# Altium schematic symbol library EReference-Schematic.SchLib: 84 symbols (part 1 of 3)
Pins are listed as number, name and electrical type; pins without a type are passive.

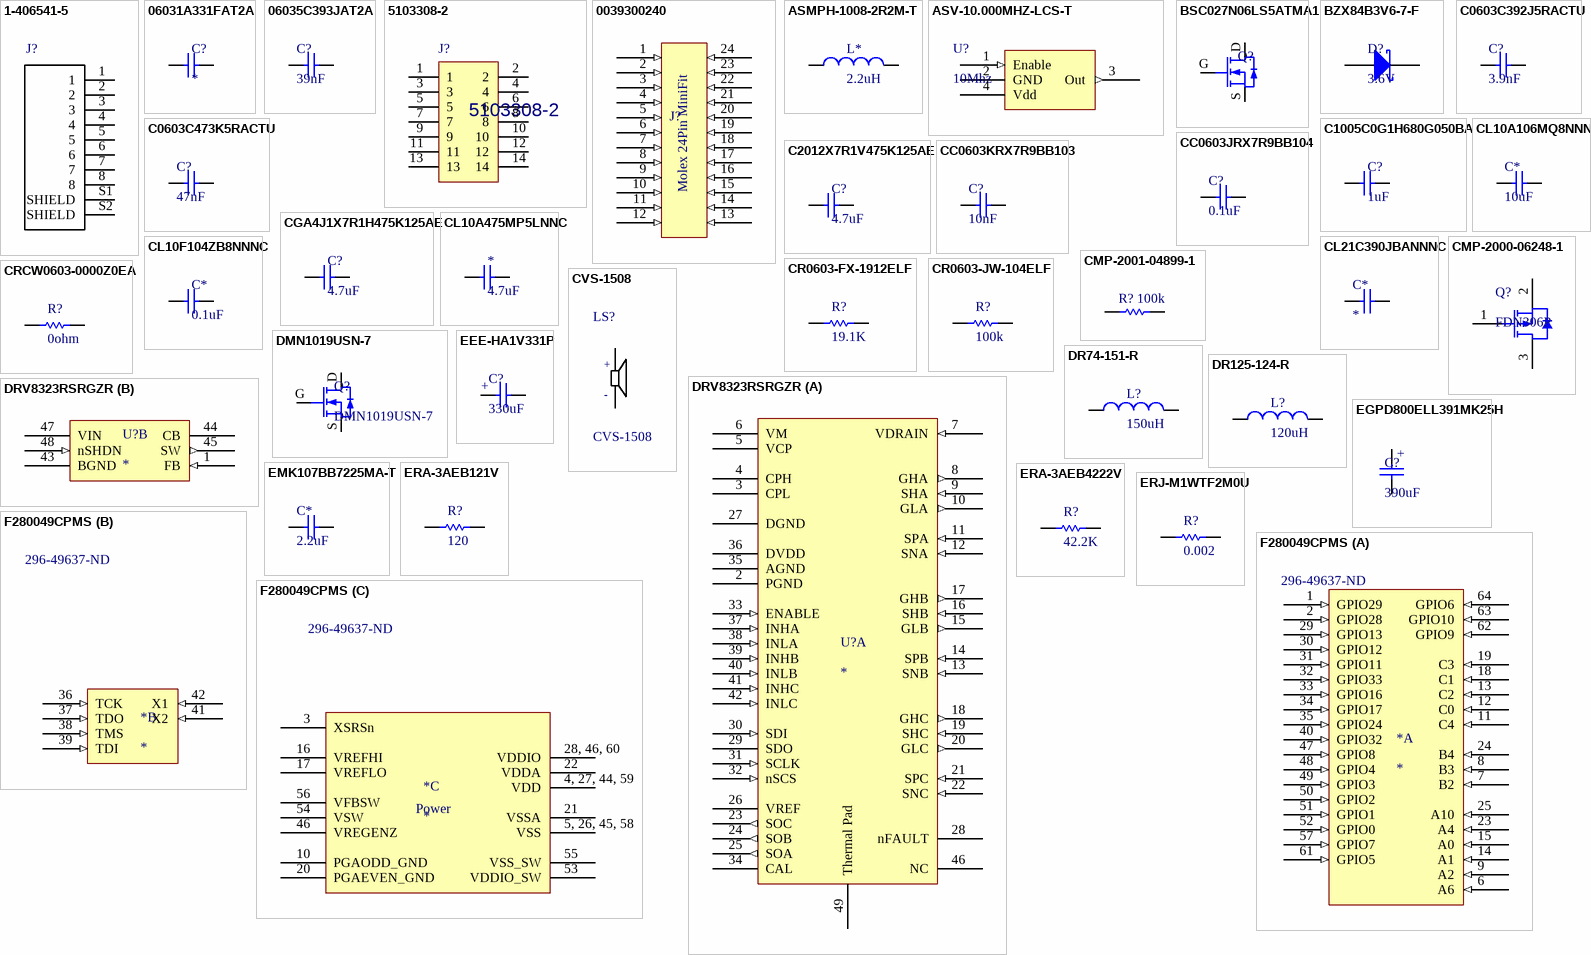
[diagram p0: symbols 1-406541-5 to F280049CPMS]

## 1-406541-5
designator J?  (value not drawn)
Conn RJ-45 F 8 POS 2.04mm Solder RA Thru-Hole 8 Terminal 1 Port Tray Cat 5; MF: TE Connectivity; TE_purchase_URL: https://www.te.com/usa-en/product-1-406541-5.html?te_bu=Cor&te_type=disp&te_campaign=seda_glo_cor-seda-global-disp-prtnr-fy19-seda-model-bom-cta_sma-317_1&elqCampaignId=32493; MP: 1-406541-5; Availability: Unavailable; Package: None; SnapEDA_Link: https://www.snapeda.com/parts/1-406541-5/TE%20Connectivity%20AMP%20Connectors/view-part/?ref=snap; Price: None; Value: *
footprint TE_1-406541-5_1-406541-5(Primary)
pins: 1, 2, 3, 4, 5, 6, 7, 8, S1 SHIELD, S2 SHIELD

## 06031A331FAT2A
designator C?
Multilayer Ceramic Capacitors MLCC - SMD/SMT 100volts 330pF 1% C0G; Manufacturer: Kyocera AVX; Manufacturer Part Number: 06031A331FAT2A; Voltage Rating: 100V; Supplier 1: Digi-Key; RoHS: Yes; Stock 1: 22973; Pricing 1: 1 = 0.52000, 10 = 0.35900, 100 = 0.21560, 500 = 0.16172, 1000 = 0.13656 (USD); Mount: Surface Mount; Case/Package: 0603; Case Code (Imperial): 0603; Case Code (Metric): 1608; Min Operating Temperature: -55°C; Max Operating Temperature: 125°C; Capacitance: 330pF; Tolerance: 1%; Dielectric: C0G; Voltage Rating (DC): 100V; Packaging: Tape and Reel; Package Quantity: 4000; Termination: SMD/SMT; Length: 1.6mm; Depth: 0.81mm; Width: 0.81mm; Thickness: 0.035inch; Radiation Hardening: No; ComponentLink1URL: http://datasheets.avx.com/C0GNP0-Dielectric.pdf; ComponentLink1Description: http://datasheets.avx.com/C0GNP0-Dielectric.pdf; ComponentLink2URL: http://www.avxcorp.com/docs/Catalogs/ccog.pdf; ComponentLink2Description: http://www.avxcorp.com/docs/Catalogs/ccog.pdf
footprint CAPC1608X05L (Chip Capacitor, 2-Leads, Body 1.60x0.80mm, IPC High Density)
pins: 1, 2

## 06035C393JAT2A
designator C?, comment 39nF
Ceramic Capacitor 0.039uf 50v, X7r, 5%, 0603, Full Reel; Manufacturer 1: Kyocera AVX; Manufacturer Part Number 1: 06035C393JAT2A; Dissipation Factor: 2.5%; Supplier 1: Digi-Key; Stock 1: 3075; Pricing 1: 1=0.37000, 10=0.25900, 100=0.15560, 500=0.11670, 1000=0.09854 (USD); RoHS: Yes; Mount: Surface Mount; Case/Package: 0603; Number of Pins: 2; Case Code (Imperial): 0603; Case Code (Metric): 1608; Min Operating Temperature: -55°C; Max Operating Temperature: 125°C; Capacitance: 39nF; Package Quantity: 4000; Voltage Rating: 50V; Voltage Rating (DC): 50V; Tolerance: 5%; Packaging: Tape and Reel; Dielectric: X7R; Termination: SMD/SMT; Length: 1.6mm; Width: 0.81mm; Thickness: 0.035inch; Depth: 0.81mm; Radiation Hardening: No; REACH SVHC: Unknown; ComponentLink1URL: https://datasheet.ciiva.com/208/cx7r-208430.pdf?src-supplier=Digi-Key; ComponentLink1Description: https://datasheet.ciiva.com/208/cx7r-208430.pdf?src-supplier=Digi-Key
footprint CAPC1608X05L (Chip Capacitor, 2-Leads, Body 1.60x0.80mm, IPC High Density)
pins: 1, 2

## 5103308-2
designator J?
Header; Pin; Vertical; Copper Alloy; Thermoplastic; 14; 0.100 x 0.100 in.; 1 A; MF: TE Connectivity; TE_purchase_URL: https://www.te.com/usa-en/product-5103308-2.html?te_bu=Cor&te_type=disp&te_campaign=seda_glo_cor-seda-global-disp-prtnr-fy19-seda-model-bom-cta_sma-317_1&elqCampaignId=32493; MP: 5103308-2; Availability: Unavailable; Package: None; SnapEDA_Link: https://www.snapeda.com/parts/5103308-2/TE%20Connectivity%20AMP%20Connectors/view-part/?ref=snap; Price: None; Value: *; ComponentLink1Description: Product Page; ComponentLink1URL: https://www.te.com/usa-en/product-5103308-2.html?te_bu=Dat&te_type=other&te_campaign=eda_usa_sg-snap-3d&elqCampaignId=20145#pdp-documents-tab
footprint TE_5103308-2
pins: 1, 2, 3, 4, 5, 6, 7, 8, 9, 10, 11, 12, 13, 14

## 0039300240
designator J?
Conn Power HDR 24 POS 4.2mm Solder RA Thru-Hole 24 Terminal 1 Port Mini-Fit Jr™ Bag; Manufacturer: Molex; Manufacturer Part Number: 0039300240; Number of Positions: 24; Connector Type: Male Pin; Number of Ports: 1; Row Spacing: 0.165inch; Supplier 1: Arrow; Stock 1: 0; Mount: Through Hole; Color: Natural; Contact Material: Brass; Contact Plating: Copper,Tin; Housing Material: Polyamide; Number of Terminals: 24; Min Operating Temperature: -40°C; Max Operating Temperature: 105°C; Packaging: Tray; Number of Rows: 2; Termination: Solder; Number of Contacts: 24; Orientation: Right Angle; Fastening Type: Ramp; Length: 51.6mm; Pitch: 4.2mm; Depth: 19.4mm; ComponentLink1URL: http://www.molex.com/webdocs/datasheets/pdf/en-us/0039300240_PCB_HEADERS.pdf; ComponentLink1Description: http://www.molex.com/webdocs/datasheets/pdf/en-us/0039300240_PCB_HEADERS.pdf; ComponentLink2URL: https://www.molex.com/pdm_docs/pk/PK-5569-002.pdf; ComponentLink2Description: https://www.molex.com/pdm_docs/pk/PK-5569-002.pdf
footprint Molex MINI-FIT 24 - 0039300240 (Mini fit family 24 pin connector right angle from Molex)
pins: 1 (in), 2 (in), 3 (in), 4 (in), 5 (in), 6 (in), 7 (in), 8 (in), 9 (in), 10 (in), 11 (in), 12 (in), 13 (in), 14 (in), 15 (in), 16 (in), 17 (in), 18 (in), 19 (in), 20 (in), 21 (in), 22 (in), 23 (in), 24 (in)
text: Molex 24Pin MiniFit

## ASMPH-1008-2R2M-T
designator L*, comment 2.2uH
FIXED IND 2.2UH 1.3A 80 MOHM SMD; Manufacturer: Abracon; Manufacturer Part Number: ASMPH-1008-2R2M-T; Core Material: Ferrite; Self Resonant Frequency: 55MHz; Shielding: Shielded; Tolerance: 20%; Saturation Current: 850mA; DC Resistance (DCR): 80mR; Test Frequency: 1MHz; Supplier 1: Digi-Key; Stock 1: 8992; Pricing 1: 1=0.39, 10=0.345, 100=0.2372, 500=0.20268, 1000=0.15525 (USD); Mount: Surface Mount; Case/Package: 1008; Case Code (Metric): 2520; Case Code (Imperial): 1008; Min Operating Temperature: -40°C; Max Operating Temperature: 85°C; Packaging: Tape and Reel; Package Quantity: 3000; Current Rating: 1.3A; Inductance: 2.2uh; Max DC Current: 850mA; Termination: SMD/SMT; Length: 0.098inch; Height: 0.9mm; Width: 2mm; Height - Seated (Max): 0.039inch; ComponentLink1URL: http://www.abracon.com/Magnetics/power/ASMPH-1008.pdf; ComponentLink1Description: http://www.abracon.com/Magnetics/power/ASMPH-1008.pdf
simulation model Model Name (Model Description)
signal-integrity model Model Name (Model Description)
footprint INDC2521X10L (Chip Inductor, 2-Leads, Body 2.50x2.10mm, IPC High Density)
pins: 1, 2

## ASV-10.000MHZ-LCS-T
designator U?, comment 10Mhz
OSC XO 10.0000MHZ LVCMOS TTL SMD; Manufacturer: Abracon; Manufacturer Part Number: ASV-10.000MHZ-LCS-T; Supplier 1: Digi-Key; Stock 1: 4213; Pricing 1: 1 = 1.12000, 10 = 0.98700, 50 = 0.92240, 100 = 0.81510, 500 = 0.77220 (USD); ComponentLink1Description: DataSheet; ComponentLink1URL: https://abracon.com/Oscillators/ASV.pdf; ComponentLink2Description: Digikey Page; ComponentLink2URL: https://www.digikey.ca/product-detail/en/abracon-llc/ASV-10.000MHZ-LCS-T/535-13490-1-ND/5980162
footprint ASV-10.000MHZ-LCS-T (Recomended Footprint for ASV-10.000MHZ-LCS-T Crystal)
pins: 1 Enable (in), 2 GND (power), 3 Out (out), 4 Vdd (power)

## BSC027N06LS5ATMA1
designator Q?
MOSFET N-CH 60V 100A 8TDSON; Manufacturer 1: Infineon; Manufacturer Part Number 1: BSC027N06LS5ATMA1; Supplier 1: Digi-Key; Stock 1: 3937; Pricing 1: 1=2.07000, 10=1.85900, 100=1.49430, 500=1.22768, 1000=1.01722 (USD); RoHS: No; ComponentLink1URL: https://www.infineon.com/dgdl/Infineon-BSC027N06LS5-DS-v02_00-EN.pdf?fileId=5546d46258fc0bc101596e1c881234d6&src-supplier=Digi-Key; ComponentLink1Description: https://www.infineon.com/dgdl/Infineon-BSC027N06LS5-DS-v02_00-EN.pdf?fileId=5546d46258fc0bc101596e1c881234d6&src-supplier=Digi-Key
footprint PG-TDSON-8-7
pins: D, G, S

## BZX84B3V6-7-F
designator D?, comment 3.6V
DIODE ZENER 3.6V 300MW SOT23; Manufacturer 1: Diodes; Manufacturer Part Number 1: BZX84B3V6-7-F; Max Power Dissipation: 350mW; Tolerance: 2%; Impedance: 90R; Test Current: 5mA; Max Reverse Leakage Current: 5uA; Element Configuration: Single; ESD Protection: No; Supplier 1: Digi-Key; Stock 1: 8752; Pricing 1: 1=0.19000, 10=0.16900, 100=0.09210, 500=0.05668, 1000=0.03864 (USD); RoHS: Yes; Mount: Surface Mount; Case/Package: SOT-23; Number of Pins: 3; Contact Plating: Tin,Matte; Min Operating Temperature: -65°C; Max Operating Temperature: 150°C; Packaging: Tape and Reel; Zener Voltage: 3.6V; Power Rating: 350mW; Length: 3mm; Height: 1.1mm; Width: 1.4mm; REACH SVHC: No SVHC; Lead Free: Lead Free; ComponentLink1URL: https://datasheet.ciiva.com/30478/0900766b81268ba3-30478625.pdf?src-supplier=RSComponents; ComponentLink1Description: https://datasheet.ciiva.com/30478/0900766b81268ba3-30478625.pdf?src-supplier=RSComponents
footprint SOT90P240X110-3N (SOT23, 3-Leads, Body 2.90x2.40mm, Pitch 0.90mm, IPC Medium Density)
pins: 1 A, 3 K

## C0603C392J5RACTU
designator C?, comment 3.9nF
Multilayer Ceramic Capacitors MLCC - SMD/SMT 50volts 3900pF X7R 5%; Manufacturer 1: KEMET; Manufacturer Part Number 1: C0603C392J5RACTU; Voltage Rating (DC): 50V; Dissipation Factor: 2.5%; Supplier 1: Digi-Key; Stock 1: 9639; Pricing 1: 1=0.40000, 10=0.28100, 100=0.16840, 500=0.12628, 1000=0.10663 (USD); RoHS: Yes; Mount: Surface Mount; Case/Package: 0603; Dielectric Material: Ceramic; Case Code (Metric): 1608; Case Code (Imperial): 0603; Min Operating Temperature: -55°C; Max Operating Temperature: 125°C; Capacitance: 3.9nF; Tolerance: 5%; Packaging: Tape and Reel; Dielectric: X7R; Voltage Rating: 50V; Package Quantity: 1; Termination: SMD/SMT; Length: 1.6mm; Height: 0.8mm; Depth: 0.8mm; Width: 0.031inch; Thickness: 0.034inch; Lead Pitch: 0.7mm; REACH SVHC: No SVHC; ComponentLink1URL: http://components.arrow.com/part/dataview/2089105S5980753N7429?src-supplier=Arrow; ComponentLink1Description: http://components.arrow.com/part/dataview/2089105S5980753N7429?src-supplier=Arrow; ComponentLink2URL: http://www.mouser.com/ds/2/212/KEM_C1002_X7R_SMD-1102033.pdf?src-supplier=Mouser; ComponentLink2Description: http://www.mouser.com/ds/2/212/KEM_C1002_X7R_SMD-1102033.pdf?src-supplier=Mouser; ComponentLink3URL: https://search.kemet.com/component-edge/download/datasheet/C0603C392J5RACTU.pdf?src-supplier=Digi-Key; ComponentLink3Description: https://search.kemet.com/component-edge/download/datasheet/C0603C392J5RACTU.pdf?src-supplier=Digi-Key; ComponentLink4URL: https://api.kemet.com/component-edge/download/datasheet/C0603C392J5RACTU.pdf?src-supplier=Digi-Key; ComponentLink4Description: https://api.kemet.com/component-edge/download/datasheet/C0603C392J5RACTU.pdf?src-supplier=Digi-Key
footprint CAPC1608X05L (Chip Capacitor, 2-Leads, Body 1.60x0.80mm, IPC High Density)
pins: 1, 2

## C0603C473K5RACTU
designator C?, comment 47nF
Multilayer Ceramic Capacitor, C Series, 0.047 - F, - 10%, X7R, 50 V, 0603 [1608 Metric] ;RoHS Compliant: Yes; Manufacturer 1: KEMET; Manufacturer Part Number 1: C0603C473K5RACTU; Voltage Rating: 50V; Dissipation Factor: 2.5%; Supplier 1: Digi-Key; Stock 1: 340857; Pricing 1: 1=0.12000, 10=0.08800, 100=0.04130, 500=0.02896, 1000=0.02397 (USD); RoHS: Yes; Mount: Surface Mount,PCB; Case/Package: 0603; Number of Pins: 2; Case Code (Metric): 1608; Case Code (Imperial): 0603; Dielectric Material: Ceramic; Min Operating Temperature: -55°C; Max Operating Temperature: 125°C; Packaging: Tape and Reel; Tolerance: 10%; Package Quantity: 1; Capacitance: 47nF; Voltage Rating (DC): 50V; Dielectric: X7R; Termination: SMD/SMT; Voltage: 50V; Length: 1.6mm; Height: 0.8mm; Width: 0.8mm; Thickness: 0.034inch; Lead Pitch: 0.7mm; Depth: 0.8mm; Radiation Hardening: No; REACH SVHC: No SVHC; ComponentLink1URL: https://datasheet.ciiva.com/6074/1776093-6074329.pdf?src-supplier=Farnell; ComponentLink1Description: https://datasheet.ciiva.com/6074/1776093-6074329.pdf?src-supplier=Farnell; ComponentLink2URL: https://datasheet.ciiva.com/28682/1851736-28682298.pdf?src-supplier=Element14; ComponentLink2Description: https://datasheet.ciiva.com/28682/1851736-28682298.pdf?src-supplier=Element14; ComponentLink3URL: https://datasheet.ciiva.com/7823/1776093-7823803.pdf?src-supplier=Element14; ComponentLink3Description: https://datasheet.ciiva.com/7823/1776093-7823803.pdf?src-supplier=Element14; ComponentLink4URL: https://datasheet.ciiva.com/18193/getdatasheetpartid-94279-18193115.pdf?src-supplier=Verical; ComponentLink4Description: https://datasheet.ciiva.com/18193/getdatasheetpartid-94279-18193115.pdf?src-supplier=Verical; ComponentLink5URL: https://datasheet.ciiva.com/7823/1776093-7823804.pdf?src-supplier=Element14; ComponentLink5Description: https://datasheet.ciiva.com/7823/1776093-7823804.pdf?src-supplier=Element14
footprint CAPC1608X05L (Chip Capacitor, 2-Leads, Body 1.60x0.80mm, IPC High Density)
pins: 1, 2

## C1005C0G1H680G050BA
designator C?, comment 1uF
CAP CER 68PF 50V C0G 0402; Manufacturer: TDK; Manufacturer Part Number: C1005C0G1H680G050BA; Dielectric Material: Ceramic; Tolerance: 2%; Supplier 1: Digi-Key; Stock 1: 86; Pricing 1: 1=0.52, 10=0.359, 100=0.2156, 500=0.16172, 1000=0.13656, 2500=0.12938, 5000=0.12219 (USD); Mount: Surface Mount; Case/Package: 0402; Weight: 2.3E-05oz; Case Code (Imperial): 0402; Case Code (Metric): 1005; Min Operating Temperature: -55°C; Max Operating Temperature: 125°C; Capacitance: 68pF; Packaging: Tape and Reel; Package Quantity: 1; Voltage Rating: 50V; Voltage Rating (DC): 50V; Dielectric: C0G; Termination: SMD/SMT; Length: 1mm; Height: 0.5mm; Width: 0.5mm; Thickness: 0.022inch; Depth: 0.5mm; Lead Free: Lead Free; ComponentLink1URL: http://www.mouser.com/ds/2/400/lcc_commercial_general_en-837201.pdf; ComponentLink1Description: http://www.mouser.com/ds/2/400/lcc_commercial_general_en-837201.pdf; ComponentLink2URL: https://product.tdk.com/info/en/documents/chara_sheet/C1005C0G1H680G050BA.pdf; ComponentLink2Description: https://product.tdk.com/info/en/documents/chara_sheet/C1005C0G1H680G050BA.pdf
footprint CAPC1608X05L (Chip Capacitor, 2-Leads, Body 1.60x0.80mm, IPC High Density)
simulation model Model Name (Model Description)
signal-integrity model Model Name (Model Description)
pins: 1, 2

## C2012X7R1V475K125AE
designator C?, comment 4.7uF
CAP CER 4.7UF 35V X7R 0805; Manufacturer 1: TDK; Manufacturer Part Number 1: C2012X7R1V475K125AE; Tolerance: 10%; Supplier 1: Digi-Key; Stock 1: 34290; Pricing 1: 1=0.67000, 10=0.47200, 100=0.31050, 500=0.23000, 1000=0.19550 (USD); RoHS: Yes; Mount: Surface Mount; Case/Package: 0805; Weight: 0.000194oz; Case Code (Metric): 2012; Case Code (Imperial): 0805; Min Operating Temperature: -55°C; Max Operating Temperature: 125°C; Capacitance: 4.7uF; Packaging: Tape and Reel; Voltage Rating: 35V; Dielectric: X7R; Termination: SMD/SMT; Voltage Rating (DC): 35V; Package Quantity: 2000; Features: Soft Termination; Length: 0.079inch; Height: 1.25mm; Width: 1.2mm; Thickness: 0.059inch; Lead Free: Lead Free; ComponentLink1URL: http://www.mouser.com/ds/2/400/tdk_mlcc_commercial_general_en-542463.pdf?src-supplier=Mouser; ComponentLink1Description: http://www.mouser.com/ds/2/400/tdk_mlcc_commercial_general_en-542463.pdf?src-supplier=Mouser; ComponentLink2URL: https://product.tdk.com/info/en/catalog/datasheets/mlcc_commercial_soft_en.pdf?src-supplier=Digi-Key; ComponentLink2Description: https://product.tdk.com/info/en/catalog/datasheets/mlcc_commercial_soft_en.pdf?src-supplier=Digi-Key; ComponentLink3URL: https://product.tdk.com/info/en/catalog/spec/mlccspec_commercial_soft_en.pdf?src-supplier=Digi-Key; ComponentLink3Description: https://product.tdk.com/info/en/catalog/spec/mlccspec_commercial_soft_en.pdf?src-supplier=Digi-Key
footprint CAPC2113X15N (Chip Capacitor, 2-Leads, Body 2.13x1.27mm, IPC Medium Density)
pins: 1, 2

## CC0603JRX7R9BB104
designator C?, comment 0.1uF
Cap Ceramic 0.1uF 50V X7R 5% SMD 0603 125C Paper T/R; Manufacturer: Yageo; Manufacturer Part Number: CC0603JRX7R9BB104; Capacitance: 100nF; Supplier 1: Digi-Key; Stock 1: 40000; Pricing 1: 1=0.17, 10=0.12, 100=0.0562, 500=0.03942, 1000=0.03263 (USD); Mount: Surface Mount; Case/Package: 0603; Number of Pins: 2; Weight: 7.1E-05oz; Case Code (Imperial): 0603; Case Code (Metric): 1608; Min Operating Temperature: -55°C; Max Operating Temperature: 125°C; Tolerance: 5%; Dielectric: X7R; Voltage Rating: 50V; Packaging: Tape and Reel; Voltage Rating (DC): 50V; Termination: SMD/SMT; Composition: Ceramic; Length: 1.6mm; Height: 0.8mm; Width: 0.031inch; Thickness: 0.035inch; Depth: 0.8mm; Radiation Hardening: No; Lead Free: Lead Free; Halogen Free: Halogen Free; ComponentLink1URL: http://www.yageo.com/documents/recent/UPY-GPHC_X7R_6.3V-to-50V_8.pdf; ComponentLink1Description: http://www.yageo.com/documents/recent/UPY-GPHC_X7R_6.3V-to-50V_8.pdf
footprint CAPC1608X05L (Chip Capacitor, 2-Leads, Body 1.60x0.80mm, IPC High Density)
simulation model Model Name (Model Description)
signal-integrity model Model Name (Model Description)
pins: 1, 2

## CC0603KRX7R9BB103
designator C?, comment 10nF
Cap Ceramic 0.01uF 50V X7R 10% SMD 0603 125C Automotive T/R; Manufacturer 1: Yageo; Manufacturer Part Number 1: CC0603KRX7R9BB103; Insulation Resistance: 100GR; Supplier 1: Digi-Key; Stock 1: 7582220; Pricing 1: 1=0.10000, 10=0.03800, 100=0.01710, 500=0.01224, 1000=0.00962 (USD); RoHS: Yes; Mount: Surface Mount; Case/Package: 0603; Number of Pins: 2; Material: Ceramic; Case Code (Metric): 1608; Case Code (Imperial): 0603; Min Operating Temperature: -55°C; Max Operating Temperature: 125°C; Tolerance: 10%; Capacitance: 10nF; Dielectric: X7R; Voltage: 50V; Packaging: Tape and Reel; Voltage Rating: 50V; Voltage Rating (DC): 50V; Package Quantity: 1; Termination: SMD/SMT; Composition: Ceramic; Length: 1.6mm; Height: 0.8mm; Width: 0.031inch; Thickness: 0.035inch; Depth: 0.8mm; Radiation Hardening: No; REACH SVHC: No SVHC; Lead Free: Lead Free; Halogen Free: Halogen Free; ComponentLink1URL: https://datasheet.ciiva.com/11788/0900766b8079c870-11788374.pdf?src-supplier=RSComponents; ComponentLink1Description: https://datasheet.ciiva.com/11788/0900766b8079c870-11788374.pdf?src-supplier=RSComponents; ComponentLink2URL: https://datasheet.ciiva.com/26862/getdatasheetpartid-403582-26862846.pdf?src-supplier=Verical; ComponentLink2Description: https://datasheet.ciiva.com/26862/getdatasheetpartid-403582-26862846.pdf?src-supplier=Verical; ComponentLink3URL: https://datasheet.ciiva.com/8033/1734573-8033861.pdf?src-supplier=Element14; ComponentLink3Description: https://datasheet.ciiva.com/8033/1734573-8033861.pdf?src-supplier=Element14; ComponentLink4URL: https://datasheet.ciiva.com/176/mlccorderingcode-176550.pdf?src-supplier=Digi-Key; ComponentLink4Description: https://datasheet.ciiva.com/176/mlccorderingcode-176550.pdf?src-supplier=Digi-Key; ComponentLink5URL: https://datasheet.ciiva.com/176/mlccorderingcode-176551.pdf?src-supplier=Digi-Key; ComponentLink5Description: https://datasheet.ciiva.com/176/mlccorderingcode-176551.pdf?src-supplier=Digi-Key; ComponentLink6URL: https://datasheet.ciiva.com/13389/upy-gphc-x7r-6-3v-to-50v-8-13389991.pdf?src-supplier=Mouser; ComponentLink6Description: https://datasheet.ciiva.com/13389/upy-gphc-x7r-6-3v-to-50v-8-13389991.pdf?src-supplier=Mouser; ComponentLink7URL: https://datasheet.ciiva.com/176/mlccorderingcode-176552.pdf?src-supplier=Digi-Key; ComponentLink7Description: https://datasheet.ciiva.com/176/mlccorderingcode-176552.pdf?src-supplier=Digi-Key; ComponentLink8URL: https://datasheet.ciiva.com/8033/1734573-8033816.pdf?src-supplier=Element14; ComponentLink8Description: https://datasheet.ciiva.com/8033/1734573-8033816.pdf?src-supplier=Element14; ComponentLink9URL: https://datasheet.ciiva.com/8033/70765-8033817.pdf?src-supplier=Element14; ComponentLink9Description: https://datasheet.ciiva.com/8033/70765-8033817.pdf?src-supplier=Element14; ComponentLink10URL: https://datasheet.ciiva.com/16625/upy-gphc-x7r-6-3v-to-50v-8-16625529.pdf?src-supplier=Avnet+Europe; ComponentLink10Description: https://datasheet.ciiva.com/16625/upy-gphc-x7r-6-3v-to-50v-8-16625529.pdf?src-supplier=Avnet+Europe; ComponentLink11URL: https://datasheet.ciiva.com/28450/1489800-28450619.pdf?src-supplier=Element14; ComponentLink11Description: https://datasheet.ciiva.com/28450/1489800-28450619.pdf?src-supplier=Element14
footprint CAPC1608X05L (Chip Capacitor, 2-Leads, Body 1.60x0.80mm, IPC High Density)
pins: 1, 2

## CGA4J1X7R1H475K125AE
designator C?, comment 4.7uF
X7R 50V 4.7uF 0805; Manufacturer 1: TDK; Manufacturer Part Number 1: CGA4J1X7R1H475K125AE; Supplier 1: Arrow; Stock 1: 2000; Pricing 1: 1=0.21820 (USD); RoHS: No
footprint CAPC2113X15N (Chip Capacitor, 2-Leads, Body 2.13x1.27mm, IPC Medium Density)
pins: 1, 2

## CL10A106MQ8NNNC
designator C*, comment 10uF
Cap Ceramic 10uF 6.3V X5R 20% SMD 0603 85C Paper T/R; Manufacturer: Samsung; Manufacturer Part Number: CL10A106MQ8NNNC; Supplier 1: Digi-Key; Stock 1: 40000; Pricing 1: 1=0.15, 10=0.11, 100=0.0515, 500=0.03614, 1000=0.02992 (USD); Mount: Surface Mount; Case/Package: 0603; Case Code (Metric): 1608; Case Code (Imperial): 0603; Contact Plating: Tin; Min Operating Temperature: -55°C; Max Operating Temperature: 85°C; Capacitance: 10uF; Tolerance: 20%; Dielectric: X5R; Package Quantity: 1; Packaging: Tape and Reel; Voltage Rating: 6.3V; Voltage: 6.3V; Length: 1.6mm; Height: 0.8mm; Width: 0.031inch; Thickness: 0.035inch; Depth: 0.8mm; Radiation Hardening: No; ComponentLink1URL: http://www.samsungsem.com/kr/support/library/product-catalog/mlcc.jsp; ComponentLink1Description: http://www.samsungsem.com/kr/support/library/product-catalog/mlcc.jsp; ComponentLink2URL: https://www.verical.com/server-webapp/html/getDatasheet?partID=357557; ComponentLink2Description: https://www.verical.com/server-webapp/html/getDatasheet?partID=357557; ComponentLink3URL: http://www1.futureelectronics.com/doc/SAMSUNG%20PASSIVE/CL05B104KQ5NNNC.pdf; ComponentLink3Description: http://www1.futureelectronics.com/doc/SAMSUNG%20PASSIVE/CL05B104KQ5NNNC.pdf
footprint CAPC1608X05L (Chip Capacitor, 2-Leads, Body 1.60x0.80mm, IPC High Density)
simulation model Model Name (Model Description)
signal-integrity model Model Name (Model Description)
pins: 1, 2

## CL10A475MP5LNNC
designator *, comment 4.7uF
Cap Ceramic 4.7uF 10V X5R 20% SMD 0603 85C Cardboard T/R; Manufacturer: Samsung; Manufacturer Part Number: CL10A475MP5LNNC; Supplier 1: Digi-Key; Stock 1: 40000; Pricing 1: 1=0.16, 10=0.117, 100=0.055, 500=0.03854, 1000=0.03191 (USD); Mount: Surface Mount; Case/Package: 0603; Case Code (Metric): 1608; Case Code (Imperial): 0603; Contact Plating: Tin; Min Operating Temperature: -55°C; Max Operating Temperature: 85°C; Packaging: Tape and Reel; Capacitance: 4.7uF; Voltage Rating: 10V; Tolerance: 20%; Termination: Wraparound; Dielectric: X5R; Length: 0.063inch; Width: 0.031inch; Thickness: 0.022inch
simulation model Model Name (Model Description)
signal-integrity model Model Name (Model Description)
footprint CAPC1608X05L (Chip Capacitor, 2-Leads, Body 1.60x0.80mm, IPC High Density)
pins: 1, 2

## CL10F104ZB8NNNC
designator C*, comment 0.1uF
Cap Ceramic 0.1uF 50V Y5V -20% to 80% SMD 0603 85C T/R; Manufacturer: Samsung; Manufacturer Part Number: CL10F104ZB8NNNC; Capacitance: 100nF; Supplier 1: Digi-Key; Stock 1: 40000; Pricing 1: 1=0.1, 10=0.038, 100=0.0169, 500=0.01208, 1000=0.00949 (USD); Mount: Surface Mount; Case/Package: 0603; Case Code (Metric): 1608; Case Code (Imperial): 0603; Material: Ceramic; Contact Plating: Tin; Min Operating Temperature: -30°C; Max Operating Temperature: 85°C; Tolerance: 80%; Packaging: Tape and Reel; Dielectric: Y5V; Voltage Rating: 50V; Package Quantity: 1; Voltage: 50V; Length: 1.6mm; Height: 0.8mm; Depth: 0.8mm; Width: 0.031inch; Thickness: 0.035inch; Radiation Hardening: No; ComponentLink1URL: http://www1.futureelectronics.com/doc/SAMSUNG/CL10F104ZB8NNNC.pdf; ComponentLink1Description: http://www1.futureelectronics.com/doc/SAMSUNG/CL10F104ZB8NNNC.pdf; ComponentLink2URL: https://www.verical.com/server-webapp/html/getDatasheet?partID=355329; ComponentLink2Description: https://www.verical.com/server-webapp/html/getDatasheet?partID=355329; ComponentLink3URL: https://www.distrelec.biz/Web/Downloads/_e/ng/MLCC_CatalogDownload2013_ENG.pdf?mime=application%2Fpdf; ComponentLink3Description: https://www.distrelec.biz/Web/Downloads/_e/ng/MLCC_CatalogDownload2013_ENG.pdf?mime=application%2Fpdf; ComponentLink4URL: https://produktinfo.conrad.com/datenblaetter/450000-474999/456692-da-01-en-VS_KONDENSATOR_0603.pdf; ComponentLink4Description: https://produktinfo.conrad.com/datenblaetter/450000-474999/456692-da-01-en-VS_KONDENSATOR_0603.pdf
footprint CAPC1608X05L (Chip Capacitor, 2-Leads, Body 1.60x0.80mm, IPC High Density)
simulation model Model Name (Model Description)
signal-integrity model Model Name (Model Description)
pins: 1, 2

## CL21C390JBANNNC
designator C*
Cap Ceramic 39pF 50V C0G 5% SMD 0805 125C T/R; Manufacturer 1: Samsung; Manufacturer Part Number 1: CL21C390JBANNNC; Temperature Coefficient: 300ppm/°C; Supplier 1: Digi-Key; Stock 1: 146725; Pricing 1: 1=0.10000, 10=0.05700, 100=0.02530, 500=0.01810, 1000=0.01422 (USD); RoHS: Yes; Mount: Surface Mount; Case/Package: 0805; Case Code (Metric): 2012; Case Code (Imperial): 0805; Material: Ceramic; Min Operating Temperature: -55°C; Max Operating Temperature: 125°C; Capacitance: 39pF; Tolerance: 5%; Dielectric: C0G; Package Quantity: 1; Packaging: Tape and Reel; Voltage Rating: 50V; Voltage: 50V; Length: 2mm; Height: 0.65mm; Depth: 1.25mm; Width: 0.049inch; Thickness: 0.03inch; Radiation Hardening: No; ComponentLink1URL: https://datasheet.ciiva.com/15195/getdatasheetpartid-480498-15195959.pdf?src-supplier=Verical; ComponentLink1Description: https://datasheet.ciiva.com/15195/getdatasheetpartid-480498-15195959.pdf?src-supplier=Verical; ComponentLink2URL: https://datasheet.ciiva.com/29199/454441-da-01-en-vs-kondensator-0805-29199687.pdf?src-supplier=Conrad; ComponentLink2Description: https://datasheet.ciiva.com/29199/454441-da-01-en-vs-kondensator-0805-29199687.pdf?src-supplier=Conrad; ComponentLink3URL: https://datasheet.ciiva.com/16428/cl05b104kq5nnnc-16428906.pdf?src-supplier=Future+Electronics; ComponentLink3Description: https://datasheet.ciiva.com/16428/cl05b104kq5nnnc-16428906.pdf?src-supplier=Future+Electronics
footprint CAPC2113X15N (Chip Capacitor, 2-Leads, Body 2.13x1.27mm, IPC Medium Density)
pins: 1, 2

## CMP-2000-06248-1
designator Q?, comment FDN306P
P-Channel Specified Power Trench (R) MOSFET, 1.8 V, -55 to 150 degC, 3-Pin SOT, RoHS, Tape and Reel; Manufacturer: Fairchild Semiconductor; Channel Mode: Enhancement; Channel Type: P; Transistor Material: Si; Package Version: Rev. 3, 05/2015; Minimum Gate Threshold Voltage: 0.4V; Maximum Gate Source Voltage: ±8V; Maximum Power Dissipation: 0.5W; Typical Turn-Off Delay Time: 38ns; Maximum Drain Source Voltage: 12V; Maximum Continuous Drain Current: 2.6A; Maximum Drain Source Resistance: 0.04Ω; Number of Elements per Chip: 1; Typical Turn-On Delay Time: 11ns; Typical Gate Charge @ Vgs: 12nC@4.5V; Transistor Configuration: Single; Typical Input Capacitance @ Vds: 1138pF@6V; Mounting Type: SurfaceMount; Mounting Technology: SurfaceMount; Category: PowerMOSFET; Datasheet URL: https://www.fairchildsemi.com/datasheets/FD/FDN306P.pdf; Length: 2.92mm; Package Reference: SSOT3L; Width: 1.4mm; Package Type: SOT-23; Maximum Operating Temperature: +150°C; Minimum Operating Temperature: -55°C; Manufacturer URL: https://www.fairchildsemi.com/; Package URL: https://www.fairchildsemi.com/package-drawings/MA/MA03B.pdf; Pin Count: 3; Height: 0.94mm; Dimensions: 2.92x1.4x0.94mm; Package Description: 3-Pin Small Outline Transistor, Body 2.92 x 1.4 mm, Pitch 0.95 mm; Datasheet Version: Rev. D, 12/2001
footprint FAIR-SSOT3L-3_V (SOT23, 3-Leads, Body 2.92x1.4mm, Pitch 0.95mm)
pins: 1 GATE, 2 SOURCE, 3 DRAIN

## CMP-2001-04899-1
designator R? 100k, comment CRCW0805100KFKEA  (value not drawn)
100k resistor 1% 0805; Manufacturer: Vishay Dale; Part Number: CRCW0805100KFKEA
footprint RESC2013X50X30LL20T20 (Chip Resistor, 2-Leads, Body 2.00x1.25mm, IPC High Density)
pins: 1, 2
1 alternate drawing of the same symbol

## CR0603-FX-1912ELF
designator R?, comment 19.1K
RES SMD 19.1K OHM 1% 1/10W 0603; Manufacturer 1: Bourns; Manufacturer Part Number 1: CR0603-FX-1912ELF; Resistance: 19.1kR; Power Rating: 100mW; Voltage Rating: 50V; Temperature Coefficient: 100ppm/°C; Supplier 1: Digi-Key; Stock 1: 78916; Pricing 1: 1=0.10000, 10=0.02000, 100=0.00820, 1000=0.00367, 2500=0.00319 (USD); RoHS: Yes; Mount: Surface Mount; Case/Package: 0603; Case Code (Metric): 1608; Case Code (Imperial): 0603; Contact Plating: Tin; Min Operating Temperature: -55°C; Max Operating Temperature: 155°C; Package Quantity: 5000; Packaging: Tape and Reel; Tolerance: 1%; Composition: Thick Film; Number of Terminations: 2; Termination: SMD/SMT; Military Standard: Not; Max Power Dissipation: 100mW; Features: Moisture Resistant; Length: 1.6mm; Height: 0.022inch; Width: 0.031inch; Depth: 0.8mm; Thickness: 457um; Radiation Hardening: No; ComponentLink1URL: https://datasheet.ciiva.com/5549/chpreztr-5549702.pdf?src-supplier=Mouser; ComponentLink1Description: https://datasheet.ciiva.com/5549/chpreztr-5549702.pdf?src-supplier=Mouser; ComponentLink2URL: https://datasheet.ciiva.com/9121/chpreztr-9121960.pdf?src-supplier=Avnet; ComponentLink2Description: https://datasheet.ciiva.com/9121/chpreztr-9121960.pdf?src-supplier=Avnet
footprint CAPC1608X05L (Chip Capacitor, 2-Leads, Body 1.60x0.80mm, IPC High Density)
pins: 1, 2

## CR0603-JW-104ELF
designator R?, comment 100k
BOURNS - CR0603-JW-104ELF - RES, 100K, 5%, 0.1W, 0603, THICK FILM; Resistance: 100kR; Power Rating: 100mW; Voltage Rating: 50V; Temperature Coefficient: 200ppm/°C; Supplier 1: Digi-Key; Manufacturer 1: Bourns; Manufacturer Part Number 1: CR0603-JW-104ELF; Stock 1: 49390; Pricing 1: 1=0.10000, 10=0.01500, 25=0.01080, 50=0.00840, 100=0.00610, 250=0.00468, 500=0.00374, 1000=0.00275 (USD); RoHS: Yes; Mount: Surface Mount; Case/Package: 0603; Number of Pins: 2; Case Code (Imperial): 0603; Case Code (Metric): 1608; Contact Plating: Tin; Min Operating Temperature: -55°C; Max Operating Temperature: 155°C; Packaging: Tape and Reel; Tolerance: 5%; Package Quantity: 5000; Composition: Thick Film; Termination: SMD/SMT; Working Voltage: 50V; Military Standard: Not; Voltage Rating (DC): 50V; Length: 1.6mm; Height: 0.45mm; Width: 0.8mm; Depth: 0.8mm; Thickness: 457um; Radiation Hardening: No; REACH SVHC: No SVHC; ComponentLink1URL: https://datasheet.ciiva.com/22713/691949-22713239.pdf?src-supplier=Element14; ComponentLink1Description: https://datasheet.ciiva.com/22713/691949-22713239.pdf?src-supplier=Element14; ComponentLink2URL: https://datasheet.ciiva.com/23776/1902866-23776391.pdf?src-supplier=Newark; ComponentLink2Description: https://datasheet.ciiva.com/23776/1902866-23776391.pdf?src-supplier=Newark; ComponentLink3URL: https://datasheet.ciiva.com/16766/70154685-16766760.pdf?src-supplier=Allied+Electronics; ComponentLink3Description: https://datasheet.ciiva.com/16766/70154685-16766760.pdf?src-supplier=Allied+Electronics; ComponentLink4URL: https://datasheet.ciiva.com/9120/chpreztr-9120764.pdf?src-supplier=Avnet; ComponentLink4Description: https://datasheet.ciiva.com/9120/chpreztr-9120764.pdf?src-supplier=Avnet; ComponentLink5URL: https://datasheet.ciiva.com/46383/1791942-46383790.pdf?src-supplier=Element14; ComponentLink5Description: https://datasheet.ciiva.com/46383/1791942-46383790.pdf?src-supplier=Element14; ComponentLink6URL: https://datasheet.ciiva.com/30229/159chpreztr-30229129.pdf?src-supplier=Onlinecomponents.com; ComponentLink6Description: https://datasheet.ciiva.com/30229/159chpreztr-30229129.pdf?src-supplier=Onlinecomponents.com; ComponentLink7URL: https://datasheet.ciiva.com/16935/chpreztr-16935963.pdf?src-supplier=Avnet+Europe; ComponentLink7Description: https://datasheet.ciiva.com/16935/chpreztr-16935963.pdf?src-supplier=Avnet+Europe; ComponentLink8URL: https://datasheet.ciiva.com/5543/chpreztr-5543676.pdf?src-supplier=Mouser; ComponentLink8Description: https://datasheet.ciiva.com/5543/chpreztr-5543676.pdf?src-supplier=Mouser; ComponentLink9URL: https://datasheet.ciiva.com/48692/001055501-da-01-en-smd-wid-cr0603-jw-104elf-100k-ohm-1-10w-48692133.pdf?src-supplier=Conrad; ComponentLink9Description: https://datasheet.ciiva.com/48692/001055501-da-01-en-smd-wid-cr0603-jw-104elf-100k-ohm-1-10w-48692133.pdf?src-supplier=Conrad
footprint CAPC1608X05L (Chip Capacitor, 2-Leads, Body 1.60x0.80mm, IPC High Density)
pins: 1, 2

## CRCW0603-0000Z0EA
designator R?, comment 0ohm
Resistor SMD 0 Ohm 0603 PU=5000 ST, CRCW06030000Z0EA, Vishay; Manufacturer Part Number 1: CRCW0603-0000Z0EA; Resistance: 0mR; Power Rating: 100mW; Voltage Rating (DC): 75V; Tolerance: 5%; Temperature Coefficient: 100ppm/°C; Current Rating: 2A; Supplier 1: Digi-Key; Manufacturer 1: Vishay; Stock 1: 1308706; Pricing 1: 1=0.100000, 10=0.034000, 25=0.024400, 50=0.018600, 100=0.013800, 250=0.010480, 500=0.008400, 1000=0.006180 (USD); RoHS: Yes; Mount: Surface Mount; Case/Package: 0603; Weight: 7.1E-05oz; Case Code (Metric): 1608; Case Code (Imperial): 0603; Contact Plating: Tin,Lead; Min Operating Temperature: -55°C; Max Operating Temperature: 155°C; Packaging: Tape and Reel; Composition: Thick Film; Voltage Rating: 75V; Package Quantity: 1; Military Standard: Not; Number of Terminations: 2; Max Power Dissipation: 100mW; Termination: SMD/SMT; Features: Automotive AEC-Q200; Working Voltage: 75V; Length: 1.55mm; Height: 0.02inch; Width: 0.033inch; Depth: 0.85mm; Radiation Hardening: No; REACH SVHC: Unknown; Lead Free: Lead Free; ComponentLink1URL: https://datasheet.ciiva.com/2461/dcrcwe3-2461968.pdf?src-supplier=Digi-Key; ComponentLink1Description: https://datasheet.ciiva.com/2461/dcrcwe3-2461968.pdf?src-supplier=Digi-Key; ComponentLink2URL: https://datasheet.ciiva.com/2461/dcrcwe3-2461969.pdf?src-supplier=Digi-Key; ComponentLink2Description: https://datasheet.ciiva.com/2461/dcrcwe3-2461969.pdf?src-supplier=Digi-Key; ComponentLink3URL: https://datasheet.ciiva.com/2461/dcrcwe3-2461970.pdf?src-supplier=Digi-Key; ComponentLink3Description: https://datasheet.ciiva.com/2461/dcrcwe3-2461970.pdf?src-supplier=Digi-Key; ComponentLink4URL: https://datasheet.ciiva.com/8340/dcrcwe3-8340197.pdf?src-supplier=Avnet; ComponentLink4Description: https://datasheet.ciiva.com/8340/dcrcwe3-8340197.pdf?src-supplier=Avnet; ComponentLink5URL: https://datasheet.ciiva.com/16941/dcrcw-16941302.pdf?src-supplier=Avnet+Europe; ComponentLink5Description: https://datasheet.ciiva.com/16941/dcrcw-16941302.pdf?src-supplier=Avnet+Europe; ComponentLink6URL: https://datasheet.ciiva.com/16199/dcrcwe3-16199063.pdf?src-supplier=Future+Electronics; ComponentLink6Description: https://datasheet.ciiva.com/16199/dcrcwe3-16199063.pdf?src-supplier=Future+Electronics; ComponentLink7URL: https://datasheet.ciiva.com/16725/70201119-16725175.pdf?src-supplier=Allied+Electronics; ComponentLink7Description: https://datasheet.ciiva.com/16725/70201119-16725175.pdf?src-supplier=Allied+Electronics; ComponentLink8URL: https://datasheet.ciiva.com/26316/fld-crcw-e3-data-en-26316615.pdf?src-supplier=Distrelec; ComponentLink8Description: https://datasheet.ciiva.com/26316/fld-crcw-e3-data-en-26316615.pdf?src-supplier=Distrelec; ComponentLink9URL: https://datasheet.ciiva.com/5544/dcrcwe3-109170-5544344.pdf?src-supplier=Mouser; ComponentLink9Description: https://datasheet.ciiva.com/5544/dcrcwe3-109170-5544344.pdf?src-supplier=Mouser; ComponentLink10URL: https://datasheet.ciiva.com/7841/1720486-7841816.pdf?src-supplier=Element14; ComponentLink10Description: https://datasheet.ciiva.com/7841/1720486-7841816.pdf?src-supplier=Element14; ComponentLink11URL: https://datasheet.ciiva.com/7841/1720486-7841817.pdf?src-supplier=Element14; ComponentLink11Description: https://datasheet.ciiva.com/7841/1720486-7841817.pdf?src-supplier=Element14; ComponentLink12URL: https://datasheet.ciiva.com/7841/125364-7841818.pdf?src-supplier=Element14; ComponentLink12Description: https://datasheet.ciiva.com/7841/125364-7841818.pdf?src-supplier=Element14; ComponentLink13URL: https://datasheet.ciiva.com/16721/70201119-16721450.pdf?src-supplier=Allied+Electronics; ComponentLink13Description: https://datasheet.ciiva.com/16721/70201119-16721450.pdf?src-supplier=Allied+Electronics; Supplier Part Number 1: 541-0.0GCT-ND
footprint RESC1609X55X30LL10T20 (Chip Resistor, 2-Leads, Body 1.60x0.85mm, IPC High Density)
pins: 1, 2 "R? 0ohm"

## CVS-1508
designator LS?
Value: *
footprint SPKR_CVS-1508_CVS-1508(Primary)
pins: M, P
text: +; -

## DMN1019USN-7
designator Q?
MOSFET N-CH 12V 9.3A SC59; Manufacturer 1: Diodes; Capacitance: 2.426E-09F; Rds On Max: 10mR; Input Capacitance: 2.426nF; Max Power Dissipation: 680mW; Element Configuration: Single; Number of Channels: 1; Drain to Source Resistance: 41mR; Gate to Source Voltage (Vgs): 4.5V; Fall Time: 16.8ns; Rise Time: 57.6ns; Turn-Off Delay Time: 22.2ns; Turn-On Delay Time: 7.6ns; Supplier 1: Digi-Key; Manufacturer Part Number 1: DMN1019USN-7; Stock 1: 30621; Pricing 1: 1=0.44000, 10=0.35400, 100=0.24130, 500=0.18096, 1000=0.13572 (USD); RoHS: Yes; Mount: Surface Mount; Case/Package: TO-236-3; Weight: 0.000282oz; Min Operating Temperature: -55°C; Max Operating Temperature: 150°C; Packaging: Tape and Reel; Drain to Source Voltage (Vdss): 12V; Continuous Drain Current (ID): 9.3A; Drain to Source Breakdown Voltage: 12V; Package Quantity: 3000; Lead Free: Lead Free; ComponentLink1URL: http://www.mouser.com/ds/2/115/DMN1019USN-336718.pdf?src-supplier=Mouser; ComponentLink1Description: http://www.mouser.com/ds/2/115/DMN1019USN-336718.pdf?src-supplier=Mouser; ComponentLink2URL: https://www.diodes.com/assets/Datasheets/DMN1019USN.pdf?src-supplier=Digi-Key; ComponentLink2Description: https://www.diodes.com/assets/Datasheets/DMN1019USN.pdf?src-supplier=Digi-Key
footprint SOT95P285X140-3N (SOT23, 3-Leads, Body 3.00x2.85mm, Pitch 0.95mm, IPC Medium Density)
pins: D, G, S

## DR74-151-R
designator L?, comment 150uH
Inductor Power Shielded Wirewound 150uH 20% 100KHz Ferrite 690mA 591mOhm DCR T/R; Manufacturer 1: Eaton Cooper; Manufacturer Part Number 1: DR74-151-R; Max DC Current: 810mA; DC Resistance (DCR): 591mR; Supplier 1: Digi-Key; Stock 1: 2349; Pricing 1: 1=1.91000, 10=1.76600, 100=1.23650, 500=1.00096 (USD); RoHS: Yes; Mount: Surface Mount; Case/Package: Nonstandard; Number of Pins: 2; Weight: 0.048oz; Core Material: Ferrite; Min Operating Temperature: -40°C; Max Operating Temperature: 125°C; Tolerance: 20%; Inductance: 150uH; Package Quantity: 1100; Current Rating: 690mA; Saturation Current: 810mA; Shielding: Shielded; Packaging: Tape and Reel; Inductance Tolerance: 20%; Composition: Wirewound; Test Frequency: 100kHz; Termination: SMD/SMT; DC Current: 690mA; Military Standard: Not; RMS Current (Irms): 690mA; Self Resonant Frequency: 100kHz; Series Resistance: 591mR; Length: 7.6mm; Height: 4.35mm; Width: 0.299inch; Height - Seated (Max): 0.171inch; Depth: 7.6mm; Radiation Hardening: No; REACH SVHC: No SVHC; ComponentLink1URL: https://datasheet.ciiva.com/14667/0900766b8116a153-14667792.pdf?src-supplier=RSComponents; ComponentLink1Description: https://datasheet.ciiva.com/14667/0900766b8116a153-14667792.pdf?src-supplier=RSComponents; ComponentLink2URL: https://datasheet.ciiva.com/14123/dr-series-eng-tds-14123485.pdf?src-supplier=Distrelec; ComponentLink2Description: https://datasheet.ciiva.com/14123/dr-series-eng-tds-14123485.pdf?src-supplier=Distrelec; ComponentLink3URL: https://datasheet.ciiva.com/13168/bus-elx-ds-4315-dr-series-13168062.pdf?src-supplier=Mouser; ComponentLink3Description: https://datasheet.ciiva.com/13168/bus-elx-ds-4315-dr-series-13168062.pdf?src-supplier=Mouser; ComponentLink4URL: https://datasheet.ciiva.com/5708/87246-5708511.pdf?src-supplier=Farnell; ComponentLink4Description: https://datasheet.ciiva.com/5708/87246-5708511.pdf?src-supplier=Farnell; ComponentLink5URL: https://datasheet.ciiva.com/26821/getdatasheetpartid-169860-26821367.pdf?src-supplier=Verical; ComponentLink5Description: https://datasheet.ciiva.com/26821/getdatasheetpartid-169860-26821367.pdf?src-supplier=Verical; ComponentLink6URL: https://datasheet.ciiva.com/8005/87246-8005224.pdf?src-supplier=Element14; ComponentLink6Description: https://datasheet.ciiva.com/8005/87246-8005224.pdf?src-supplier=Element14; ComponentLink7URL: https://datasheet.ciiva.com/30174/43bus-elx-ds-4315-dr-ser-30174266.pdf?src-supplier=Onlinecomponents.com; ComponentLink7Description: https://datasheet.ciiva.com/30174/43bus-elx-ds-4315-dr-ser-30174266.pdf?src-supplier=Onlinecomponents.com; ComponentLink8URL: https://datasheet.ciiva.com/16350/bus-elx-ds-4315-dr-series-16350588.pdf?src-supplier=Future+Electronics; ComponentLink8Description: https://datasheet.ciiva.com/16350/bus-elx-ds-4315-dr-series-16350588.pdf?src-supplier=Future+Electronics
footprint INDP7676X44N (Precision Wire Wound Inductor, 2-Leads, Body 7.60x7.60mm, IPC Medium Density)
pins: 1, 2

## DR125-124-R
designator L?, comment 120uH
Fixed Inductors 120 000uH 0.069A 150ohms; Manufacturer 1: Eaton Bussmann; Manufacturer Part Number 1: DR125-124-R; Core Material: Ferrite; Tolerance: 20%; Shielding: Shielded; Saturation Current: 58A; Current Rating: 60mA; Inductance: 120mH; DC Resistance (DCR): 150R; Test Frequency: 100kHz; Current: 60A; Max DC Current: 69mA; Supplier 1: Digi-Key; Stock 1: 1520; Pricing 1: 1=1.95000, 10=1.80100, 100=1.26060 (USD); RoHS: Yes; Mount: Surface Mount; Case/Package: 120; Number of Pins: 2; Weight: 0.016oz; Min Operating Temperature: -40°C; Max Operating Temperature: 125°C; Packaging: Tape and Reel; Package Quantity: 600; Termination: SMD/SMT; DC Current: 60mA; Military Standard: Not; Length: 12.5mm; Height: 6mm; Width: 0.492inch; Depth: 12.5mm; Lead Free: Lead Free; ComponentLink1URL: https://datasheet.ciiva.com/16291/4a32919a-7470-4ae0-be45-b59e3a1351ef-16291744.pdf?src-supplier=Future+Electronics; ComponentLink1Description: https://datasheet.ciiva.com/16291/4a32919a-7470-4ae0-be45-b59e3a1351ef-16291744.pdf?src-supplier=Future+Electronics; ComponentLink2URL: https://datasheet.ciiva.com/4958/bus-elx-ds-4315-dr-series-4958109.pdf?src-supplier=Mouser; ComponentLink2Description: https://datasheet.ciiva.com/4958/bus-elx-ds-4315-dr-series-4958109.pdf?src-supplier=Mouser
footprint INDM125100X60N (Molded Inductor, 2-Leads, Body 12.50x10.00mm, IPC Medium Density)
pins: 1, 2

## DRV8323RSRGZR
designator U?
IC 3PHASE GATE DRIVER 48VQFN; Manufacturer: Texas Instruments; Manufacturer Part Number: DRV8323RSRGZR; Supplier 1: Digi-Key; Stock 1: 5951; Pricing 1: 1=4.44, 10=3.991, 100=3.2698, 500=2.78356, 1000=2.34758 (USD); Min Operating Temperature: -40°C; Max Operating Temperature: 125°C; Supplier 2: Digi-Key; Manufacturer 2: Texas Instruments; Manufacturer Part Number 2: DRV8323RSRGZR; Stock 2: 7391; Pricing 2: 1=4.44000, 10=3.99100, 100=3.26980, 500=2.78356, 1000=2.34758 (USD); RoHS: No; ComponentLink1URL: http://www.ti.com/lit/ds/symlink/drv8323r.pdf?src-supplier=Digi-Key; ComponentLink1Description: http://www.ti.com/lit/ds/symlink/drv8323r.pdf?src-supplier=Digi-Key
footprint QFN50P700X700X100_HS-49N (QFN, 48-Leads, Body 7.00x7.00mm, Pitch 0.50mm, Thermal Pad 5.15x5.15mm, IPC Medium Density)
part A pins: 2 PGND (power) "Device power ground. Connect to system ground.", 3 CPL (power) "Charge pump switching node. Connect a X5R or X7R, 47-nF, VM-rated ceramic capacitor between the CPH and CPL pins.", 4 CPH (power) "Charge pump switching node. Connect a X5R or X7R, 47-nF, VM-rated ceramic capacitor between the CPH and CPL pins.", 5 VCP (power) "Charge pump output. Connect a X5R or X7R, 1-µF, 16-V ceramic capacitor between the VCP and VM pins.", 6 VM (power) "Gate driver power supply input. Connect to the bridge power supply. Connect a X5R or X7R, 0.1-µF, VM-rated ceramic and  greater then or equal to 10-uF local capacitance between the VM and PGND pins.", 7 VDRAIN (in) "High-side MOSFET drain sense input. Connect to the common point of the MOSFET drains.", 8 GHA (out) "High-side gate driver output. Connect to the gate of the high-side power MOSFET", 9 SHA (in) "High-side source sense input. Connect to the high-side power MOSFET source.", 10 GLA (out) "Low-side gate driver output. Connect to the gate of the low-side power MOSFET.", 11 SPA (in) "Low-side source sense and shunt amplifier input. Connect to the low-side power MOSFET source and high-side of the  current shunt resistor.", 12 SNA (in) "Shunt amplifier input. Connect to the low-side of the current shunt resistor.", 13 SNB (in) "Shunt amplifier input. Connect to the low-side of the current shunt resistor.", 14 SPB (in) "Low-side source sense and shunt amplifier input. Connect to the low-side power MOSFET source and high-side of the  current shunt resistor.", 15 GLB (out) "Low-side gate driver output. Connect to the gate of the low-side power MOSFET.", 16 SHB (in) "High-side source sense input. Connect to the high-side power MOSFET source.", 17 GHB (out) "High-side gate driver output. Connect to the gate of the high-side power MOSFET", 18 GHC (out) "High-side gate driver output. Connect to the gate of the high-side power MOSFET", 19 SHC (in) "High-side source sense input. Connect to the high-side power MOSFET source.", 20 GLC (out) "Low-side gate driver output. Connect to the gate of the low-side power MOSFET.", 21 SPC (in) "Low-side source sense and shunt amplifier input. Connect to the low-side power MOSFET source and high-side of the  current shunt resistor.", 22 SNC (in) "Shunt amplifier input. Connect to the low-side of the current shunt resistor.", 23 SOC (out) "Shunt amplifier output.", 24 SOB (out) "Shunt amplifier output.", 25 SOA (out) "Shunt amplifier output.", 26 VREF (power) "Shunt amplifier power supply input and reference. Connect a X5R or X7R, 0.1-µF, 6.3-V ceramic capacitor between the  VREF and AGND pins.", 27 DGND (power) "Device ground. Connect to system ground.", 28 nFAULT (oc) "Fault indicator output. This pin is pulled logic low during a fault condition and requires an external pullup resistor", 29 SDO (oc) "Serial data output. Data is shifted out on the rising edge of the SCLK pin. This pin requires an external pullup resistor.", 30 SDI (in) "Serial data input. Data is captured on the falling edge of the SCLK pin.", 31 SCLK (in) "Serial clock input. Serial data is shifted out and captured on the corresponding rising and falling edge on this pin.", 32 nSCS (in) "Serial chip select. A logic low on this pin enables serial interface communication.", 33 ENABLE (in) "Gate driver enable. When this pin is logic low the device enters a low power sleep mode. An 8 to 40-µs low pulse can be  used to reset fault conditions.", 34 CAL (power) "Amplifier calibration input. Set logic high to internally short amplifier inputs and perform auto offset calibration.", 35 AGND (power) "Device analog ground. Connect to system ground.", 36 DVDD (power) "3.3-V internal regulator output. Connect a X5R or X7R, 1-µF, 6.3-V ceramic capacitor between the DVDD and AGND pins.  This regulator can source up to 30 mA externally.", 37 INHA (in) "High-side gate driver control input. This pin controls the output of the high-side gate driver.", 38 INLA (in) "Low-side gate driver control input. This pin controls the output of the low-side gate driver.", 39 INHB (in) "High-side gate driver control input. This pin controls the output of the high-side gate driver.", 40 INLB (in) "Low-side gate driver control input. This pin controls the output of the low-side gate driver.", 41 INHC (in) "High-side gate driver control input. This pin controls the output of the high-side gate driver.", 42 INLC (in) "Low-side gate driver control input. This pin controls the output of the low-side gate driver.", 46 NC (hiz) "No internal connection. This pin can be left floating or connected to system ground.", 49 Thermal Pad
part B pins: 1 FB (in) "Buck feedback input. A resistor divider from the buck post inductor output to this pin sets the buck output voltage.", 43 BGND (power) "Buck regulator ground. Connect to system ground.", 44 CB (power) "Buck regulator bootstrap input. Connect a X5R or X7R, 0.1-µF, 16-V, capacitor between the CB and SW pins", 45 SW (out) "Buck switch node. Connect this pin to an inductor, diode, and the CB bootstrap capacitor.", 47 VIN (power) "Buck regulator power supply input. Place an X5R or X7R, VM-rated ceramic capacitor between the VIN and BGND pins.", 48 nSHDN (in) "Buck shutdown input. Enable and disable input (high voltage tolerant). Internal pullup current source. Pull below 1.25 V to  disable. Float to enable. Establish input undervoltage lockout with two resistor divider."